# EAGLE library part 6PIN_RELIMATE_CONNECTOR (library AB_RELIMATE_CONNECTORS)
RELIMATE CONNECTOR Created by Aadesh Borate PITCH = 2.54 mm
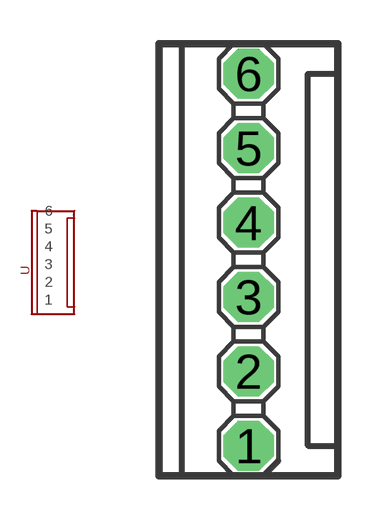
[diagram p0: symbol with the pads of 6PIN_RELIMATE_CONNECTOR; footprint 6PIN_RELIMATE_CONNECTOR]

Designator prefix -

## 6PIN_RELIMATE_CONNECTOR  [6PIN_RELIMATE_CONNECTOR]
1  1
2  2
3  3
4  4
5  5
6  6

## Footprint 6PIN_RELIMATE_CONNECTOR (pad centres in mm)
RELIMATE CONNECTOR Created by Aadesh Borate PITCH = 2.54 mm
drill 1.143 octagon: 1 0,-6.35; 2 0,-3.81; 3 0,-1.27; 4 0,1.27; 5 0,3.81; 6 0,6.35